# Altium schematic symbol library ADP162AUJZ-3.3-R7.SchLib: 1 symbol
Pins are listed as number, name and electrical type; pins without a type are passive.

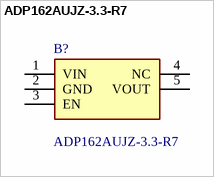
[diagram p0: symbol ADP162AUJZ-3.3-R7]

## ADP162AUJZ-3.3-R7
designator B?
LDO Voltage Regulators 150mA LDO 3.3Vout; Manufacturer_Name: Analog Devices; Geometry.Height: 1mm; Mouser Part Number: 584-ADP162AUJZ-3.3R7; Mouser Price/Stock: https://www.mouser.co.uk/ProductDetail/Analog-Devices/ADP162AUJZ-3.3-R7?qs=WIvQP4zGangHoc9MX39OnA%3D%3D; Manufacturer_Part_Number: ADP162AUJZ-3.3-R7; Datasheet Link: https://www.analog.com/media/en/technical-documentation/data-sheets/ADP160_161_162_163.pdf
footprint SOT95P280X100-5N
pins: 1 VIN, 2 GND, 3 EN, 4 NC, 5 VOUT